# Altium schematic symbol library Altium Example Master Schematic Library.SchLib: 46 symbols
Pins are listed as number, name and electrical type; pins without a type are passive.

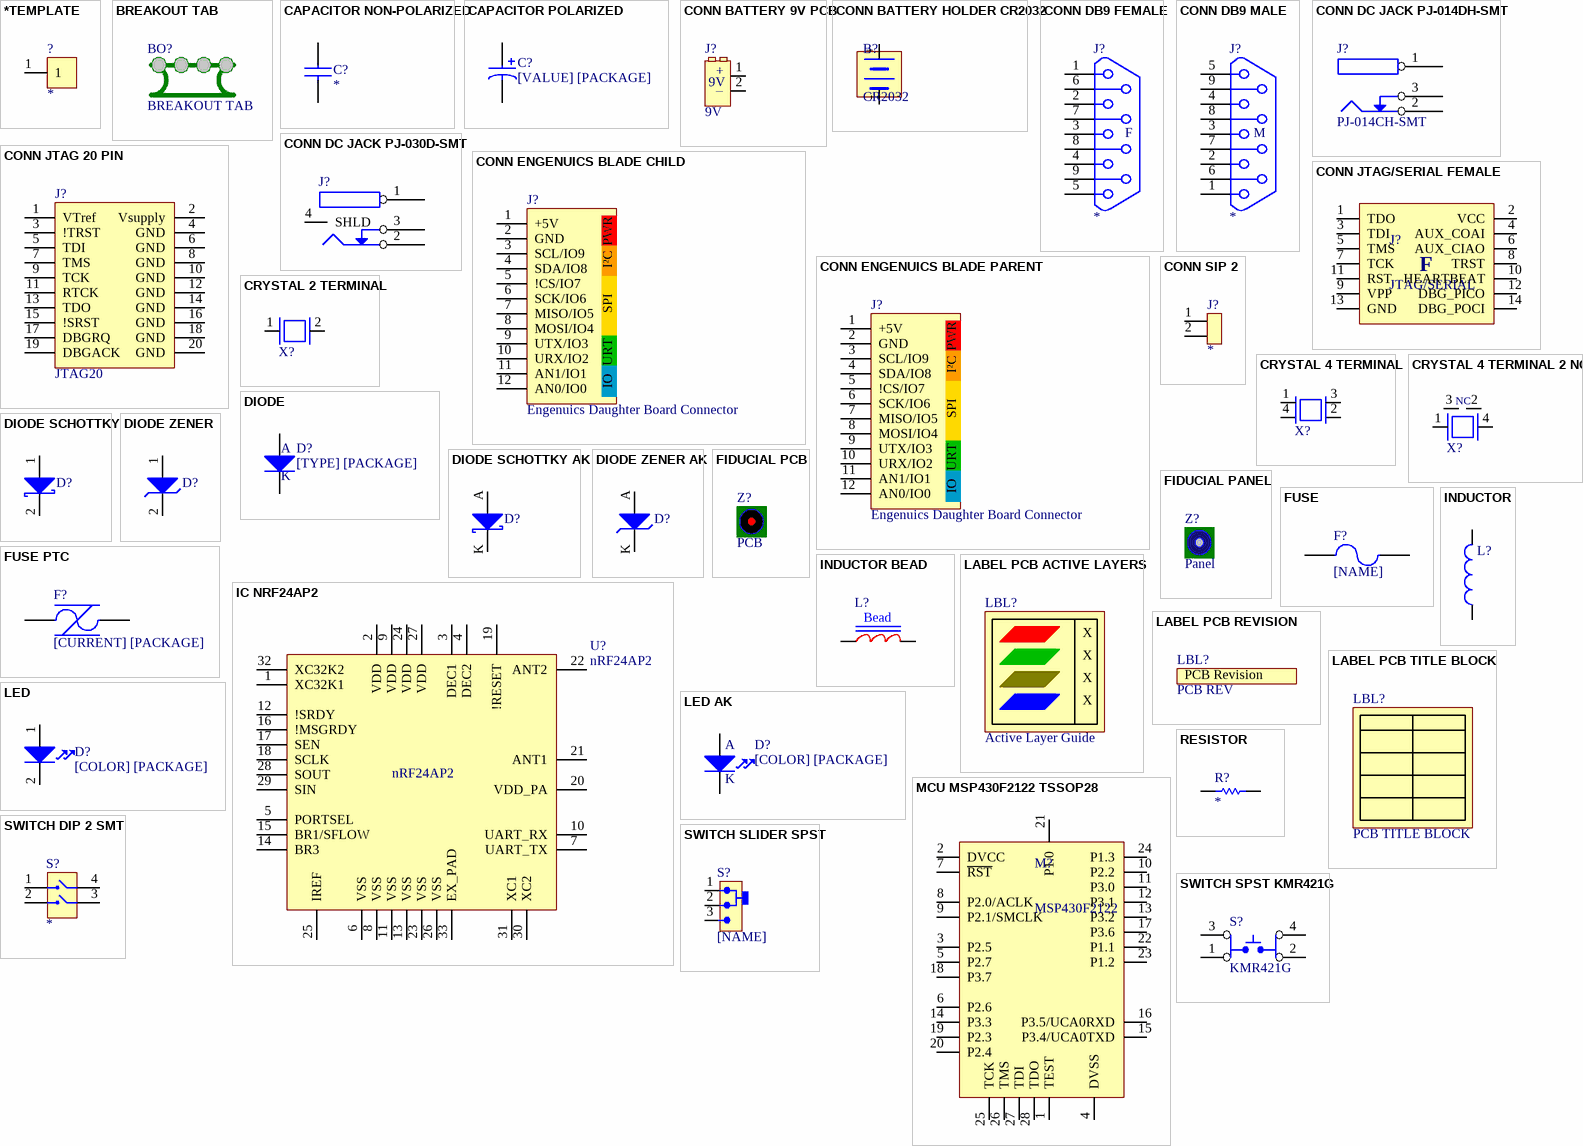
[diagram p0: symbols *TEMPLATE to SWITCH SPST KMR421G]

## *TEMPLATE
designator ?
1. Description: *; 2. Manufacturer: *; 3. Manufacturer Part Number: *; 4. Digi-Key Part Number: *; 5. Internal Part Number: *; 6. Last Modified: *; 7. Modified By: *
pins: 1

## BREAKOUT TAB
designator BO?
7. Modified By: JRL; 1. Description: BREAKOUT TAB; 2. Manufacturer: N/A; 3. Manufacturer Part Number: N/A; 4. Digi-Key Part Number: N/A; 5. Internal Part Number: N/A; 6. Last Modified: 2008-06-18
footprint BREAKOUT 4-HOLE 4MM

## CAPACITOR NON-POLARIZED
designator C?
1. Description: CAP [TYPE] [VALUE] [TOLERANCE] [VOLTAGE] [CLASS] [PACKAGE]; 5. Internal Part Number: *; 4. Digi-Key Part Number: *; 3. Manufacturer Part Number: *; 6. Last Modified: *; 7. Modified By: *; 2. Manufacturer: *
footprint 0603
footprint 0402
footprint 0805
footprint 1206
footprint 1210
footprint 1812
footprint 2010 / 1206 / 0603
pins: 1, 2

## CAPACITOR POLARIZED
designator C?, comment [VALUE] [PACKAGE]
1. Description: CAP [TYPE] [VALUE] [TOLERANCE] [VOLTAGE] [CLASS] [PACKAGE]; 5. Internal Part Number: *; 4. Digi-Key Part Number: *; 3. Manufacturer Part Number: *; 6. Last Modified: *; 7. Modified By: *; 2. Manufacturer: *
footprint 0603 POLARIZED
footprint 0805 POLARIZED
pins: 1, 2

## CONN BATTERY 9V PCB
designator J?, comment 9V
2. Manufacturer: Memory Protection Devices; 3. Manufacturer Part Number: BSPCM & BSPCF; 1. Description: CONN 9V MALE & FEMALE PAIR PC MOUNT; 7. Modified By: JRL; 4. Digi-Key Part Number: BSPCM & BSPCF; 5. Internal Part Number: *; 6. Last Modified: 2010-07-02
footprint CONN BATTERY 9V THRUHOLE OFFBOARD
pins: 1 +, 2 -
text: _

## CONN BATTERY HOLDER CR2032
designator B?, comment CR2032
3V Coincell Battery; 2. Manufacturer: FCI; 3. Manufacturer Part Number: BK-912; 5. Internal Part Number: 100192; 1. Description: CONN HOLDER COIN CELL 20MM SMD; 7. Modified By: JRL; 4. Digi-Key Part Number: BK-912-ND; 6. Last Modified: 2012-09-03
footprint CONN BATTERY HOLDER CR2032
pins: +, -

## CONN DB9 FEMALE
designator J?
DB9 F; 1. Description: CONN D-SUB RCPT 9POS; 7. Modified By: JRL; 2. Manufacturer: *; 3. Manufacturer Part Number: *; 4. Digi-Key Part Number: *; 5. Internal Part Number: *; 6. Last Modified: December 20, 2009
footprint CONN DB9F R/A SMT
footprint CONN DB9F R/A TH
pins: 1, 2, 3, 4, 5, 6, 7, 8, 9
text: F

## CONN DB9 MALE
designator J?
DB9 F; 1. Description: CONN D-SUB RCPT 9POS; 7. Modified By: JRL; 2. Manufacturer: *; 3. Manufacturer Part Number: *; 4. Digi-Key Part Number: *; 5. Internal Part Number: *; 6. Last Modified: December 20, 2009
footprint CONN DB9M R/A SMT
footprint CONN DB9M R/A TH
pins: 1, 2, 3, 4, 5, 6, 7, 8, 9
text: M

## CONN DC JACK PJ-014DH-SMT
designator J?, comment 4. Digi-Key Part Number: PJ-014CH-SMT  (hidden comment: KYCON DC POWER CONNECTOR)
2. Manufacturer: CUI; 1. Description: DC POWER JACK; 7. Modified By: *
footprint PJ-014CH-SMT
pins: 1, 2, 3

## CONN DC JACK PJ-030D-SMT
designator J?, comment PJ-030D-SMT  (value not drawn)
5. Internal Part Number: 100185; 2. Manufacturer: CUI; 1. Description: DC POWER JACK; 7. Modified By: JRL; 6. Last Modified: 2012-09-18; 3. Manufacturer Part Number: PJ-030D-SMT; 4. Digi-Key Part Number: CP-030DPJTR-ND
footprint CONN DC JACK SMT PJ-030D
pins: 1, 2, 3, 4 SHLD

## CONN ENGENUICS BLADE CHILD
designator J?, comment Engenuics Daughter Board Connector
2. Manufacturer: FCI; 3. Manufacturer Part Number: 68016-412HLF; 1. Description: CONN HEADER 12POS .100 R/A TIN; 7. Modified By: JRL; 4. Digi-Key Part Number: 609-3330-ND; 5. Internal Part Number: *; 6. Last Modified: 2010-07-02
footprint HDR1X12 ENGENUICS CHILD
pins: 1 +5V, 2 GND, 3 SCL/IO9, 4 SDA/IO8, 5 !CS/IO7, 6 SCK/IO6, 7 MISO/IO5, 8 MOSI/IO4, 9 UTX/IO3, 10 URX/IO2, 11 AN1/IO1, 12 AN0/IO0
text: PWR; I²C; SPI; URT; IO

## CONN ENGENUICS BLADE PARENT
designator J?, comment Engenuics Daughter Board Connector
2. Manufacturer: Sullins; 3. Manufacturer Part Number: PPTC121LGBN-RC; 1. Description: CONN FEMALE 12POS .100" R/A TIN; 7. Modified By: JRL; 4. Digi-Key Part Number: S5448-ND; 5. Internal Part Number: *; 6. Last Modified: 2010-07-02
footprint HDR1X12 ENGENUICS PARENT
pins: 1 +5V, 2 GND, 3 SCL/IO9, 4 SDA/IO8, 5 !CS/IO7, 6 SCK/IO6, 7 MISO/IO5, 8 MOSI/IO4, 9 UTX/IO3, 10 URX/IO2, 11 AN1/IO1, 12 AN0/IO0
text: PWR; I²C; SPI; URT; IO

## CONN JTAG 20 PIN
designator J?, comment JTAG20
JTAG 20-Pin Connector; 2. Manufacturer: Assmann Electronics Inc; 3. Manufacturer Part Number: AWHW20G-0202-T-R; 1. Description: CONN HEADER LOW-PRO 20POS GOLD; 7. Modified By: JRL; 4. Digi-Key Part Number: HRP20H-ND; 5. Internal Part Number: *; 6. Last Modified: December 22, 2009
footprint HDR JTAG 2X10
pins: 1 VTref, 2 Vsupply, 3 !TRST, 4 GND, 5 TDI, 6 GND, 7 TMS, 8 GND, 9 TCK, 10 GND, 11 RTCK, 12 GND, 13 TDO, 14 GND, 15 !SRST, 16 GND, 17 DBGRQ, 18 GND, 19 DBGACK, 20 GND

## CONN JTAG/SERIAL FEMALE
designator J?, comment JTAG/SERIAL
2. Manufacturer: FCI; 3. Manufacturer Part Number: 20021321-00014T4LF; 5. Internal Part Number: 100254; 1. Description: CONN TERMINAL 14POS 7X12 1.27MM VERT SMD; 7. Modified By: BJW; 4. Digi-Key Part Number: 609-3771-ND; 6. Last Modified: 2018-10-07
footprint CONN 14POS 7X2 SMT FEMALE SMALL (JTAG/SERIAL Connector Footprint)
pins: 1 TDO, 2 VCC, 3 TDI, 4 AUX_COAI, 5 TMS, 6 AUX_CIAO, 7 TCK, 8 TRST, 9 VPP, 10 HEARTBEAT, 11 RST, 12 DBG_PICO, 13 GND, 14 DBG_POCI
text: F

## CONN SIP 2
designator J?
2. Manufacturer: *; 3. Manufacturer Part Number: *; 1. Description: *; 4. Digi-Key Part Number: *; 5. Internal Part Number: *; 6. Last Modified: *; 7. Modified By: *
footprint HDR1X2 (Footprint not found)
pins: 1, 2

## CRYSTAL 2 TERMINAL
designator X?
1. Description: XTAL [SPEED] [LOAD CAPACITANCE] [MOUNT]; 5. Internal Part Number: *; 6. Last Modified: *; 7. Modified By: *; 2. Manufacturer: *; 4. Digi-Key Part Number: *; 3. Manufacturer Part Number: *
footprint CRYSTAL 4.9mm x 1.8mm
footprint XTL-CM315/CM415/CM519-32.768KHz
footprint XTAL 3.2 x 1.5 MM (Footprint not found)
pins: 1, 2

## CRYSTAL 4 TERMINAL
designator X?
1. Description: XTAL [SPEED] [LOAD CAPACITANCE] [MOUNT]; 5. Internal Part Number: *; 6. Last Modified: *; 7. Modified By: *; 2. Manufacturer: *; 4. Digi-Key Part Number: *; 3. Manufacturer Part Number: *
footprint CRYSTAL 3225
footprint CRYSTAL 4025
pins: 1, 2 N/C, 3, 4 N/C

## CRYSTAL 4 TERMINAL 2 NC
designator X?, comment [SPEED]  (value not drawn)
1. Description: XTAL [SPEED] [LOAD CAPACITANCE] [MOUNT]; 5. Internal Part Number: *; 6. Last Modified: *; 7. Modified By: *; 2. Manufacturer: *; 4. Digi-Key Part Number: *; 3. Manufacturer Part Number: *
footprint CRYSTAL 4mm x 2.5mm
footprint XTAL SSP-T7
pins: 1, 2 N/C, 3 NC, 4 N/C

## DIODE
designator D?, comment [TYPE] [PACKAGE]
1. Description: DIODE [CURRENT] [VOLTAGE] [PACKAGE]; 2. Manufacturer: *; 3. Manufacturer Part Number: *; 4. Digi-Key Part Number: *; 5. Internal Part Number: *; 6. Last Modified: *; 7. Modified By: *
footprint SMA AK
footprint SMB AK
footprint SMC AK
footprint SOD123 AK
pins: A, K

## DIODE SCHOTTKY
designator D?
1. Description: DIODE SCHOTTKY [CURRENT] [VOLTAGE] [PACKAGE]; 2. Manufacturer: *; 3. Manufacturer Part Number: *; 4. Digi-Key Part Number: *; 5. Internal Part Number: *; 6. Last Modified: *; 7. Modified By: *
footprint 0603 AK
footprint SMA AK
footprint SMB AK
footprint SMC AK
footprint SOD123 AK
footprint SOD323 AK
footprint SOT23 AK
pins: 1, 2

## DIODE SCHOTTKY AK
designator D?
1. Description: DIODE [TYPE] [CURRENT] [VOLTAGE] [PACKAGE]; 2. Manufacturer: *; 3. Manufacturer Part Number: *; 4. Digi-Key Part Number: *; 5. Internal Part Number: *; 6. Last Modified: *; 7. Modified By: *
footprint DO-220AA - AK
footprint SMA AK
footprint 0603 AK
footprint SOD123 AK
footprint SOD323 AK
footprint SMB AK
footprint SMC AK
pins: A, K

## DIODE ZENER
designator D?
1. Description: DIODE ZENER [CURRENT] [VOLTAGE] [PACKAGE]; 2. Manufacturer: *; 3. Manufacturer Part Number: *; 4. Digi-Key Part Number: *; 5. Internal Part Number: *; 6. Last Modified: *; 7. Modified By: *
footprint SMA
footprint SMB
footprint SMC
footprint SOD123
footprint SOD323
footprint Model Name (Model Description)
pins: 1, 2

## DIODE ZENER AK
designator D?
1. Description: DIODE ZENER [CURRENT] [VOLTAGE] [PACKAGE]; 2. Manufacturer: *; 3. Manufacturer Part Number: *; 4. Digi-Key Part Number: *; 5. Internal Part Number: *; 6. Last Modified: *; 7. Modified By: *
footprint SOT23 AK
footprint SOD123 AK
footprint SOD323 AK
footprint SMA AK
footprint SMB AK
footprint SMC AK
pins: A, K

## FIDUCIAL PANEL
designator Z?, comment Panel
1. Description: FIDUCIAL MULTI LAYER PAD ONLY; 7. Modified By: JRL; 2. Manufacturer: *; 3. Manufacturer Part Number: *; 4. Digi-Key Part Number: *; 5. Internal Part Number: *; 6. Last Modified: 2011-04-17
footprint FIDUCIAL PANEL

## FIDUCIAL PCB
designator Z?, comment PCB
1. Description: FIDUCIAL SINGLE LAYER PADS ONLY; 7. Modified By: JRL; 2. Manufacturer: *; 3. Manufacturer Part Number: *; 4. Digi-Key Part Number: *; 5. Internal Part Number: *; 6. Last Modified: 2011-04-17
footprint FIDUCIAL PCB

## FUSE
designator F?, comment [NAME]
1. Description: FUSE [AMPERAGE] [VOLTAGE] [TYPE] [PACKAGE]; 2. Manufacturer: *; 3. Manufacturer Part Number: *; 4. Digi-Key Part Number: *; 5. Internal Part Number: *; 6. Last Modified: *; 7. Modified By: *
footprint 0603
pins: 1, 2

## FUSE PTC
designator F?, comment [CURRENT] [PACKAGE]
1. Description: FUSE RESETABLE [CURRENT] [PACKAGE]; 2. Manufacturer: *; 3. Manufacturer Part Number: *; 4. Digi-Key Part Number: *; 5. Internal Part Number: *; 6. Last Modified: *; 7. Modified By: *
footprint SMD050
footprint 1812
pins: 1, 2

## IC NRF24AP2
designator U?, comment nRF24AP2
2. Manufacturer: Nordic Semiconductor; 5. Internal Part Number: 100341; 1. Description: IC ANT/RF nRF24AP2 5x5 QFN; 7. Modified By: JRL; 3. Manufacturer Part Number: nRF24AP2; 4. Digi-Key Part Number: N/A; 6. Last Modified: April 26, 2010
footprint QFN32 5x5 0.5 EP
pins: 1 XC32K1, 2 VDD, 3 DEC1, 4 DEC2, 5 PORTSEL, 6 VSS, 7 UART_TX, 8 VSS, 9 VDD, 10 UART_RX, 11 VSS, 12 !SRDY, 13 VSS, 14 BR3, 15 BR1/SFLOW, 16 !MSGRDY, 17 SEN, 18 SCLK, 19 !RESET, 20 VDD_PA, 21 ANT1, 22 ANT2, 23 VSS, 24 VDD, 25 IREF, 26 VSS, 27 VDD, 28 SOUT, 29 SIN, 30 XC2, 31 XC1, 32 XC32K2, 33 EX_PAD

## INDUCTOR
designator L?
1. Description: INDUCTOR [TYPE] [VALUE] [TOLERANCE] [PACKAGE] [CURRENT] [DCR]; 2. Manufacturer: *; 3. Manufacturer Part Number: *; 4. Digi-Key Part Number: *; 5. Internal Part Number: *; 6. Last Modified: *; 7. Modified By: *
footprint 0603
footprint 0402
footprint 0805
footprint 1206
footprint 1210
pins: 1, 2

## INDUCTOR BEAD
designator L?
1. Description: INDUCTOR [TYPE] [VALUE] [TOLERANCE] [PACKAGE] [CURRENT] [DCR]; 2. Manufacturer: *; 3. Manufacturer Part Number: *; 4. Digi-Key Part Number: *; 5. Internal Part Number: *; 6. Last Modified: *; 7. Modified By: *
footprint 0402
footprint 0603
footprint 1206
pins: 1, 2
text: Bead

## LABEL PCB ACTIVE LAYERS
designator LBL?, comment Active Layer Guide  (no BOM)
1. Description: LABEL PCB ACTIVE LAYERS; 2. Manufacturer: N/A; 3. Manufacturer Part Number: N/A; 4. Digi-Key Part Number: N/A; 5. Internal Part Number: N/A; 6. Last Modified: *; 7. Modified By: *
footprint LABEL PCB ACTIVE LAYERS VERTICAL
footprint LABEL PCB ACTIVE LAYERS HORIZONTAL
text: X

## LABEL PCB REVISION
designator LBL?, comment PCB REV  (no BOM)
1. Description: LABEL PCB ENGENUICS; 7. Modified By: JRL; 2. Manufacturer: N/A; 3. Manufacturer Part Number: N/A; 4. Digi-Key Part Number: N/A; 5. Internal Part Number: N/A; 6. Last Modified: June 30, 2008
footprint LABEL PCB REVISION
text: PCB Revision

## LABEL PCB TITLE BLOCK
designator LBL?, comment PCB TITLE BLOCK  (no BOM)
1. Description: LABEL PCB TITLE BLOCK; 7. Modified By: JRL; 2. Manufacturer: N/A; 3. Manufacturer Part Number: N/A; 4. Digi-Key Part Number: N/A; 5. Internal Part Number: N/A; 6. Last Modified: June 30, 2008
footprint LABEL PCB Title Block

## LED
designator D?, comment [COLOR] [PACKAGE]
1. Description: LED [COLOR] [STYLE] [PACKAGE] [MOUNT]; 2. Manufacturer: *; 3. Manufacturer Part Number: *; 4. Digi-Key Part Number: *; 5. Internal Part Number: *; 6. Last Modified: *; 7. Modified By: *
footprint 0603
pins: 1, 2

## LED AK
designator D?, comment [COLOR] [PACKAGE]
1. Description: LED [COLOR] [STYLE] [PACKAGE] [MOUNT]; 2. Manufacturer: *; 3. Manufacturer Part Number: *; 4. Digi-Key Part Number: *; 5. Internal Part Number: *; 6. Last Modified: *; 7. Modified By: *
footprint 0603 AK
footprint PLCC-2 AK
pins: A, K

## MCU MSP430F2122 TSSOP28
designator M?, comment MSP430F2122
2. Manufacturer: TI; 3. Manufacturer Part Number: MSP430F2122TPWR; 1. Description: MCU MSP430F2122 TSSOP28 LED BLINKER; 7. Modified By: BJW; 4. Digi-Key Part Number: 296-23365-ND; 5. Internal Part Number: *; 6. Last Modified: 2018-10-07
footprint TSSOP28
pins: 1 TEST, 2 DVCC, 3 P2.5, 4 DVSS, 5 P2.7, 6 P2.6, 7 ~{RST}, 8 P2.0/ACLK, 9 P2.1/SMCLK, 10 P2.2, 11 P3.0, 12 P3.1, 13 P3.2, 14 P3.3, 15 P3.4/UCA0TXD, 16 P3.5/UCA0RXD, 17 P3.6, 18 P3.7, 19 P2.3, 20 P2.4, 21 P1.0, 22 P1.1, 23 P1.2, 24 P1.3, 25 TCK, 26 TMS, 27 TDI, 28 TDO

## RESISTOR
designator R?
1. Description: RES [VALUE] [POWER] [TOLERANCE] [PACKAGE] [CONSTRUCTION]; 5. Internal Part Number: *; 4. Digi-Key Part Number: *; 2. Manufacturer: *; 3. Manufacturer Part Number: *; 6. Last Modified: *; 7. Modified By: *
footprint 0603
footprint 0402
footprint 0805
footprint 1206
footprint 1210
footprint 1812
footprint 1812
footprint 2010
footprint 2010 / 1206 / 0603
footprint 2512
pins: 1, 2

## SWITCH DIP 2 SMT
designator S?
2. Manufacturer: CTS; 3. Manufacturer Part Number: 219-2MST; 5. Internal Part Number: 100106; 1. Description: SWITCH DIP 2 POS SMD; 7. Modified By: JRL; 4. Digi-Key Part Number: CT2192MST-ND; 6. Last Modified: 2011-05-03
footprint SWITCH DIP 2 GULL WING
pins: 1, 2, 3, 4

## SWITCH SLIDER SPST
designator S?, comment [NAME]
1. Description: *; 2. Manufacturer: *; 3. Manufacturer Part Number: *; 4. Digi-Key Part Number: *; 5. Internal Part Number: *; 6. Last Modified: *; 7. Modified By: *
footprint SWITCH AH1
footprint SWITCH EG1218
pins: 1, 2, 3

## SWITCH SPST KMR421G
designator S?, comment KMR421G
2. Manufacturer: C&K; 3. Manufacturer Part Number: KMR421G LFS; 5. Internal Part Number: 100214; 1. Description: SWITCH TACTILE SPST-NO 0.05A 32V; 7. Modified By: JRL; 4. Digi-key Part Number: CKN10249CT-ND; 6. Last Modified: 2012-11-23
footprint SWITCH MOMENTARY KMR2
footprint SWITCH MOMENTARY KMR2 Extended
pins: 1 X1, 2 X2, 3 Y1, 4 Y2

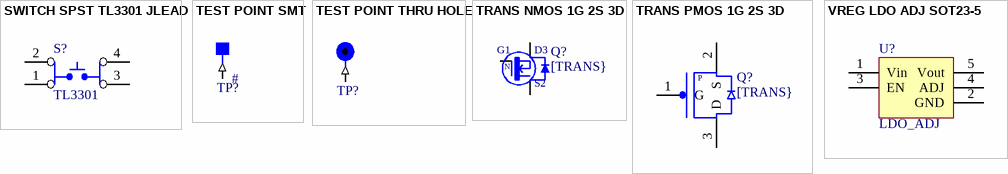
[diagram p1: symbols SWITCH SPST TL3301 JLEAD to VREG LDO ADJ SOT23-5]

## SWITCH SPST TL3301 JLEAD
designator S?, comment TL3301
SPST TACT SWITCH; 2. Manufacturer: E-Switch; 3. Manufacturer Part Number: TL3301xxx; 1. Description: SWITCH TACT 260GF H=5.0MM SMT; 7. Modified By: JRL; 6. Last Modified: 2014-10-24
footprint SWITCH TACT SMT TL3301 J LEAD
pins: 1 X1, 2 X2, 3 Y1, 4 Y2

## TEST POINT SMT
designator TP?, comment #  (no BOM)
1. Description: Test pad; 7. Modified By: JRL; 2. Manufacturer: N/A; 3. Manufacturer Part Number: N/A; 4. Digi-key Part Number: N/A; 5. Internal Part Number: N/A; 6. Last Modified: June 12, 2008
footprint TEST POINT SMT
footprint TEST POINT SMT TINY
pins: 1 (in)

## TEST POINT THRU HOLE
designator TP?, comment TEST POINT  (value not drawn)  (no BOM)
1. Description: TEST PAD THROUGH-HOLE; 7. Modified By: JRL; 2. Manufacturer: N/A; 3. Manufacturer Part Number: N/A; 4. Digi-Key Part Number: N/A; 5. Internal Part Number: N/A; 6. Last Modified: June 12, 2008
footprint TEST POINT THRU HOLE
pins: 1 (in)

## TRANS NMOS 1G 2S 3D
designator Q?, comment [TRANS}
2. Manufacturer: *; 3. Manufacturer Part Number: *; 4. Digi-Key Part Number: *; 5. Internal Part Number: *; 6. Last Modified: *; 7. Modified By: *
footprint SC-70-3
footprint SOT23
pins: 1 G, 2 S, 3 D
text: G1; D3; N; S2

## TRANS PMOS 1G 2S 3D
designator Q?, comment [TRANS}
2. Manufacturer: *; 3. Manufacturer Part Number: *; 4. Digi-Key Part Number: *; 5. Internal Part Number: *; 6. Last Modified: *; 7. Modified By: *
footprint SC-70-3
pins: 1 G, 2 S, 3 D
text: P

## VREG LDO ADJ SOT23-5
designator U?, comment LDO_ADJ
7. Modified By: JRL; 1. Description: *; 2. Manufacturer: *; 3. Manufacturer Part Number: *; 4. Digi-Key Part Number: *; 5. Internal Part Number: *; 6. Last Modified: July 10, 2010
footprint SOT23-5
pins: 1 Vin, 2 GND, 3 EN, 4 ADJ, 5 Vout